# Altium schematic symbol library EVP-BB2A9B000.SchLib: 1 symbol
Pins are listed as number, name and electrical type; pins without a type are passive.

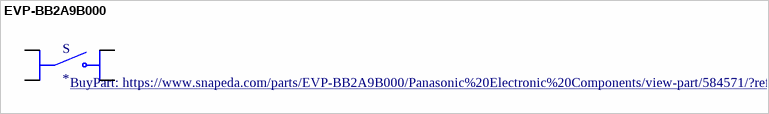
[diagram p0: symbol EVP-BB2A9B000]

## EVP-BB2A9B000
designator S
Tactile Switch SPST-NO Top Actuated Surface Mount; MF: Panasonic Electronic; MP: EVP-BB2A9B000; Value: *; Mouser-Purchase-URL: https://snapeda.com/shop?store=Mouser&id=584571; Package: None; DigiKey-Purchase-URL: https://snapeda.com/shop?store=DigiKey&id=584571; Arrow_Electronics-Purchase-URL: https://snapeda.com/shop?store=Arrow+Electronics&id=584571; Price: None; Availability: Good; SnapEDA_Link: https://www.snapeda.com/parts/EVP-BB2A9B000/Panasonic%20Electronic%20Components/view-part/584571/?ref=snap; BuyPart: https://www.snapeda.com/parts/EVP-BB2A9B000/Panasonic%20Electronic%20Components/view-part/584571/?ref=eda
footprint SW_EVP-BB2A9B000
pins: A1, A2, B1, B2